# Altium integrated library Linear Technology PMIC-Switching Reg LTC1174-LTC3901.IntLib: 2647 symbols (part 273 of 310)
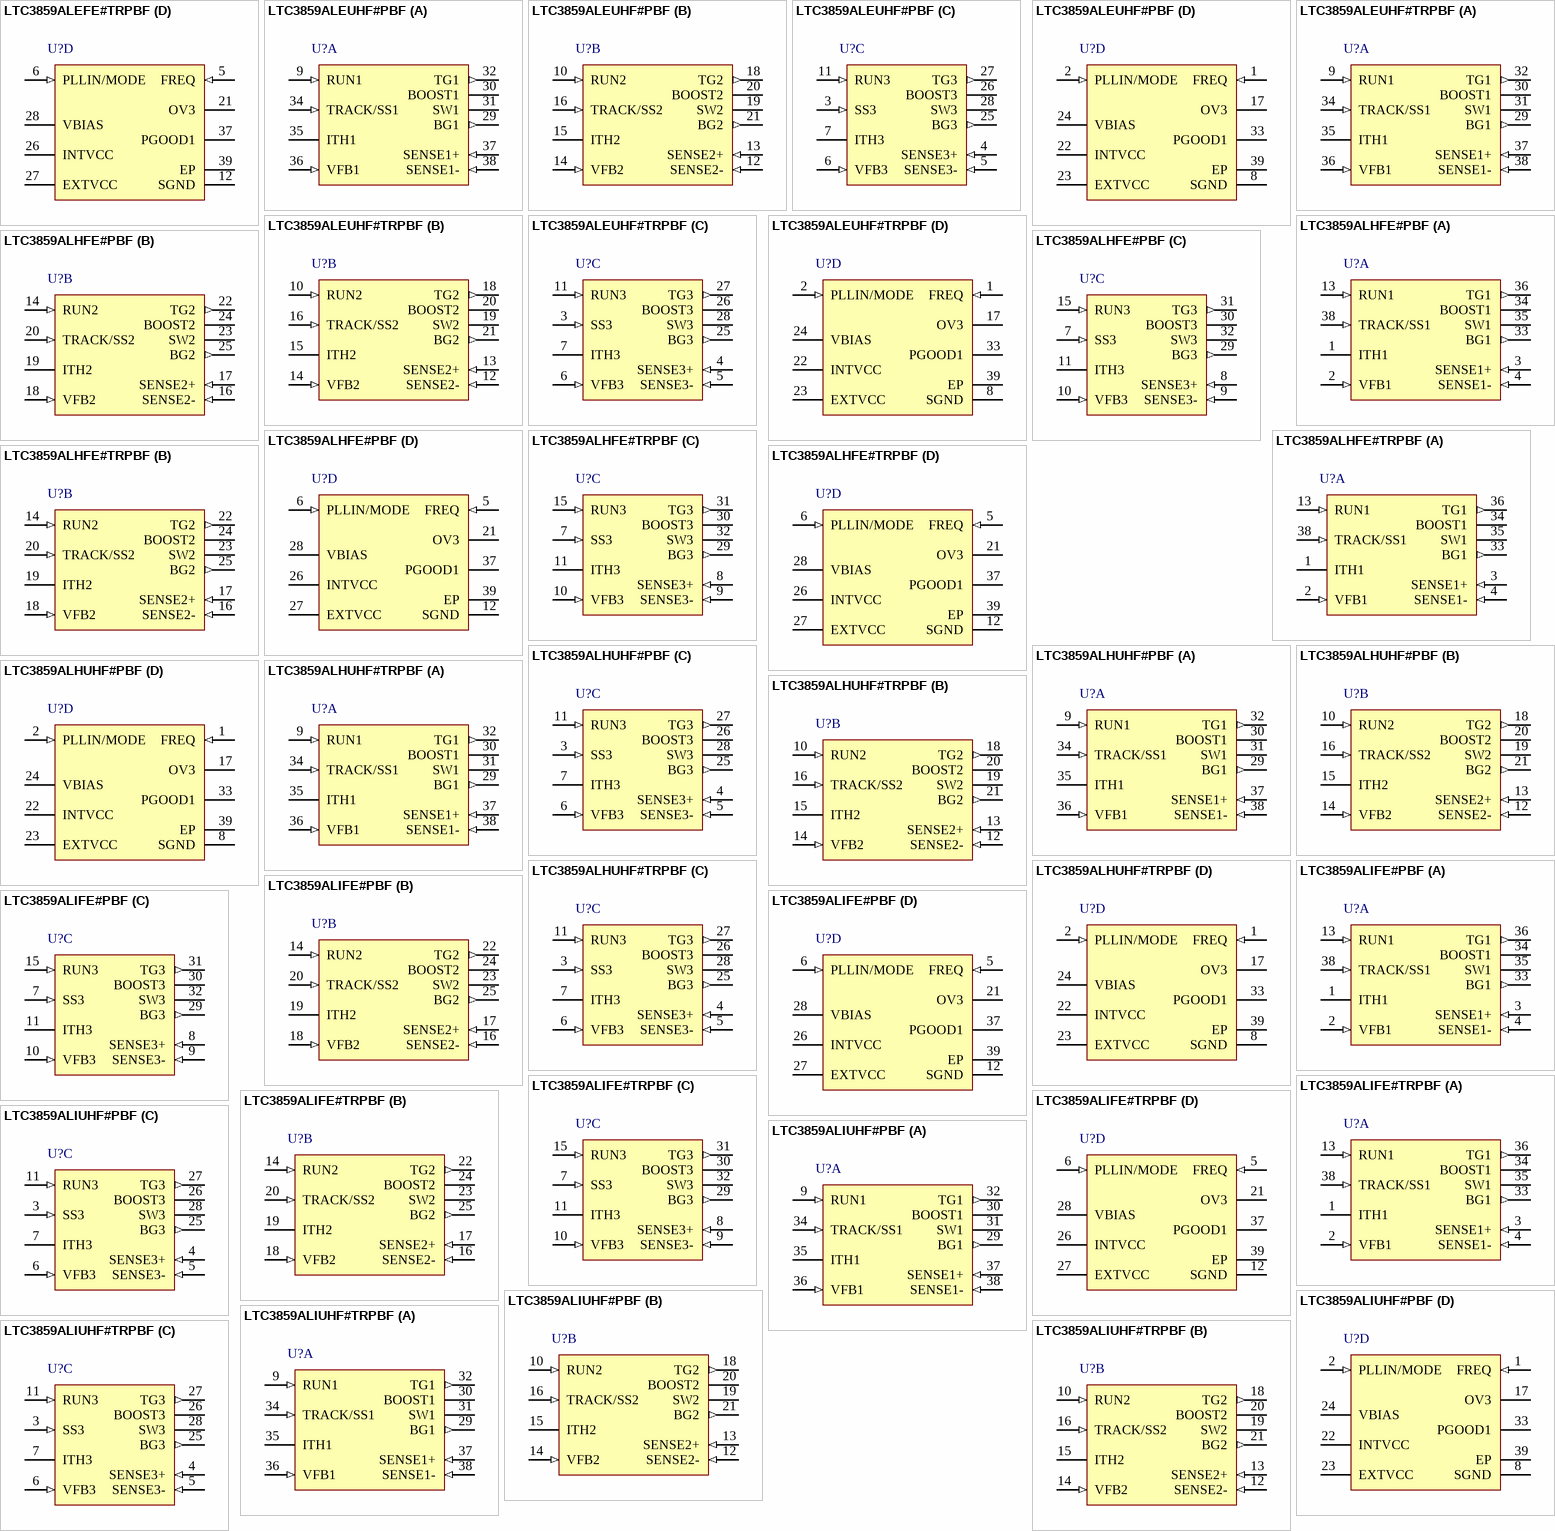
[diagram p280: symbols LTC3859ALEFE#TRPBF to LTC3859ALIUHF#TRPBF]

## LTC3859ALHFE#TRPBF
designator U?
Low IQ, Triple Output, Buck / Buck / Boost Synchronous Controller with Improved Burst Mode Operation, 38-pin SOP (FE-38-EPV-AA), -40 to 150 degC, Pb-Free, Tape and Reel; Manufacturer: Linear Technology; PartNumber: LTC3859ALHFE#TRPBF; Number of Outputs: 3; PackageReference: FE-38; PackageDescription: 38-Pin Plastic TSSOP, Body 9.7 x 4.4 mm, Pitch 0.5 mm; Supplier 1: Digi-Key; Supplier Part Number 1: LTC3859ALHFE#TRPBF-ND; RoHS: TRUE
footprint LT-FE-38-EPV-AA_N (SOP, 38-Leads, Body 9.8x4.5mm, Pitch 0.5mm, Thermal Pad 4.75x2.74mm, IPC Medium Density)
footprint LT-FE-38-EPV-AA_L (SOP, 38-Leads, Body 9.8x4.5mm, Pitch 0.5mm, Thermal Pad 4.75x2.74mm, IPC High Density)
footprint LT-FE-38-EPV-AA_M (SOP, 38-Leads, Body 9.8x4.5mm, Pitch 0.5mm, Thermal Pad 4.75x2.74mm, IPC Low Density)
part A pins: 1 ITH1 "Error Amplifier Outputs and Switching Regulator Compensation Points. Each associated channel’s current comparator trip point increases with this control voltage.", 2 VFB1 (in) "Receives the remotely sensed feedback voltage for each controller from an external resistive divider across the output.", 3 SENSE1+ (in) "The (+) Input to the Differential Current Comparators. The ITH pin voltage and controlled offsets between the SENSE- and SENSE+ pins in conjunction with RSENSE set the current trip threshold. For the boost channel, the (See Datasheet)", 4 SENSE1- (in) "The (-) Input to the Differential Current Comparators. When SENSE1,2- for the buck channels is greater than INTVCC, then SENSE1,2- pin supplies current to the current comparator.", 13 RUN1 (in) "Digital Run Control Inputs for Each Controller.", 33 BG1 (out) "High Current Gate Drives for Bottom (Synchronous) N-Channel MOSFETs. Voltage swing at these pins is from ground to INTVCC.", 34 BOOST1 "Bootstrapped Supplies to the Top Side Floating Drivers. Capacitors are connected between the BOOST and SW pins and Schottky diodes are tied between the BOOST and INTVCC pins. Voltage swing at the BOOST pins is from INTVCC to (See Datasheet)", 35 SW1 "Switch Node Connections to Inductors.", 36 TG1 (out) "High Current Gate Drives for Top N-Channel MOSFETs. These are the outputs of floating drivers with a voltage swing equal to INTVCC superimposed on the switch node voltage SW.", 38 TRACK/SS1 (in) "External Tracking and Soft-Start Input."
part B pins: 14 RUN2 (in) "Digital Run Control Inputs for Each Controller.", 16 SENSE2- (in) "The (-) Input to the Differential Current Comparators. When SENSE1,2- for the buck channels is greater than INTVCC, then SENSE1,2- pin supplies current to the current comparator", 17 SENSE2+ (in) "The (+) Input to the Differential Current Comparators. The ITH pin voltage and controlled offsets between the SENSE- and SENSE+ pins in conjunction with RSENSE set the current trip threshold. For the boost channel, the (See Datasheet)", 18 VFB2 (in) "Receives the remotely sensed feedback voltage for each controller from an external resistive divider across the output.", 19 ITH2 "Error Amplifier Outputs and Switching Regulator Compensation Points. Each associated channel’s current comparator trip point increases with this control voltage.", 20 TRACK/SS2 (in) "External Tracking and Soft-Start Input.", 22 TG2 (out) "High Current Gate Drives for Top N-Channel MOSFETs. These are the outputs of floating drivers with a voltage swing equal to INTVCC superimposed on the switch node voltage SW.", 23 SW2 "Switch Node Connections to Inductors.", 24 BOOST2 "Bootstrapped Supplies to the Top Side Floating Drivers. Capacitors are connected between the BOOST and SW pins and Schottky diodes are tied between the BOOST and INTVCC pins. Voltage swing at the BOOST pins is from INTVCC to (See Datasheet)", 25 BG2 (out) "High Current Gate Drives for Bottom (Synchronous) N-Channel MOSFETs. Voltage swing at these pins is from ground to INTVCC."
part C pins: 7 SS3 (in) "External Tracking and Soft-Start Input.", 8 SENSE3+ (in) "The (+) Input to the Differential Current Comparators. The ITH pin voltage and controlled offsets between the SENSE- and SENSE+ pins in conjunction with RSENSE set the current trip threshold. For the boost channel, the (See Datasheet)", 9 SENSE3- (in) "The (-) Input to the Differential Current Comparators. When SENSE1,2- for the buck channels is greater than INTVCC, then SENSE1,2- pin supplies current to the current comparator.", 10 VFB3 (in) "Receives the remotely sensed feedback voltage for each controller from an external resistive divider across the output.", 11 ITH3 "Error Amplifier Outputs and Switching Regulator Compensation Points. Each associated channel’s current comparator trip point increases with this control voltage.", 15 RUN3 (in) "Digital Run Control Inputs for Each Controller.", 29 BG3 (out) "High Current Gate Drives for Bottom (Synchronous) N-Channel MOSFETs. Voltage swing at these pins is from ground to INTVCC.", 30 BOOST3 "Bootstrapped Supplies to the Top Side Floating Drivers. Capacitors are connected between the BOOST and SW pins and Schottky diodes are tied between the BOOST and INTVCC pins. Voltage swing at the BOOST pins is from INTVCC to (See Datasheet)", 31 TG3 (out) "High Current Gate Drives for Top N-Channel MOSFETs. These are the outputs of floating drivers with a voltage swing equal to INTVCC superimposed on the switch node voltage SW.", 32 SW3 "Switch Node Connections to Inductors."
part D pins: 5 FREQ (in) "The Frequency Control Pin for the Internal VCO. Connecting the pin to GND forces the VCO to a fixed low frequency of 350kHz. Connecting the pin to INTVCC forces the VCO to a fixed high frequency of 535kHz. Other frequencies (See Datasheet)", 6 PLLIN/MODE (in) "External Synchronization Input to Phase Detector and Forced Continuous Mode Input.", 12 SGND (power) "Small Signal Ground common to all three controllers, must be routed separately from high current grounds to the common (-) terminals of the CIN capacitors.", 21 OV3 (hiz) "Overvoltage Open-Drain Logic Output for the Boost Regulator. OV3 is pulled to ground when the voltage on the VFB3 pin is under 110% of its set point, and becomes high impedance when VFB3 goes over 110% of its set point.", 26 INTVCC (power) "Output of the Internal Linear Low Dropout Regulator. The driver and control circuits are powered from this voltage source. Must be decoupled to PGND with a minimum of 4.7uF ceramic or tantalum capacitor.", 27 EXTVCC (power) "External Power Input to an Internal LDO Connected to INTVCC. This LDO supplies INTVCC power, bypassing the internal LDO powered from VBIAS whenever EXTVCC is higher than 4.7V. See EXTVCC Connection in the Applications (See Datasheet)", 28 VBIAS (power) "Main Bias Input Supply Pin. A bypass capacitor should be tied between this pin and the SGND pin.", 37 PGOOD1 (oc) "Open-Drain Logic Output. PGOOD1 is pulled to ground when the voltage on the VFB1 pin is not within +/-10% of its set point.", 39 EP (power) "Driver Power Ground. Connects to the sources of bottom N-channel MOSFETs and the (-) terminal(s) of CIN. The exposed pad must be soldered to the PCB for rated electrical and thermal performance."

## LTC3859ALHUHF#PBF
designator U?
Low IQ, Triple Output, Buck / Buck / Boost Synchronous Controller with Improved Burst Mode Operation, 38-pin QFN (UHF-38), -40 to 150 degC, Pb-Free; Manufacturer: Linear Technology; PartNumber: LTC3859ALHUHF#PBF; Number of Outputs: 3; PackageReference: UHF-38; PackageDescription: 38-Pin Plastic QFN, Body 7 x 5 mm, Pitch 0.5 mm; Supplier 1: Digi-Key; Supplier Part Number 1: LTC3859ALHUHF#PBF-ND; RoHS: TRUE; Code_JEDEC: MO-220
footprint LT-UHF-38_N (QFN, 38-Leads, Body 7.1x5.1mm, Pitch 0.5mm, Thermal Pad 3.15x5.15mm, IPC Medium Density)
footprint LT-UHF-38_L (QFN, 38-Leads, Body 7.1x5.1mm, Pitch 0.5mm, Thermal Pad 3.15x5.15mm, IPC High Density)
footprint LT-UHF-38_M (QFN, 38-Leads, Body 7.1x5.1mm, Pitch 0.5mm, Thermal Pad 3.15x5.15mm, IPC Low Density)
part A pins: 9 RUN1 (in) "Digital Run Control Inputs for Each Controller.", 29 BG1 (out) "High Current Gate Drives for Bottom (Synchronous) N-Channel MOSFETs. Voltage swing at these pins is from ground to INTVCC.", 30 BOOST1 "Bootstrapped Supplies to the Top Side Floating Drivers. Capacitors are connected between the BOOST and SW pins and Schottky diodes are tied between the BOOST and INTVCC pins. Voltage swing at the BOOST pins is from INTVCC to (See Datasheet)", 31 SW1 "Switch Node Connections to Inductors", 32 TG1 (out) "High Current Gate Drives for Top N-Channel MOSFETs. These are the outputs of floating drivers with a voltage swing equal to INTVCC superimposed on the switch node voltage SW.", 34 TRACK/SS1 (in) "External Tracking and Soft-Start Input.", 35 ITH1 "Error Amplifier Outputs and Switching Regulator Compensation Points. Each associated channel’s current comparator trip point increases with this control voltage.", 36 VFB1 (in) "Receives the remotely sensed feedback voltage for each controller from an external resistive divider across the output.", 37 SENSE1+ (in) "The (+) Input to the Differential Current Comparators. The ITH pin voltage and controlled offsets between the SENSE- and SENSE+ pins in conjunction with RSENSE set the current trip threshold. For the boost channel, the (See Datasheet)", 38 SENSE1- (in) "The (-) Input to the Differential Current Comparators. When SENSE1,2- for the buck channels is greater than INTVCC, then SENSE1,2- pin supplies current to the current comparator."
part B pins: 10 RUN2 (in) "Digital Run Control Inputs for Each Controller.", 12 SENSE2- (in) "The (-) Input to the Differential Current Comparators. When SENSE1,2- for the buck channels is greater than INTVCC, then SENSE1,2- pin supplies current to the current comparator.", 13 SENSE2+ (in) "The (+) Input to the Differential Current Comparators. The ITH pin voltage and controlled offsets between the SENSE- and SENSE+ pins in conjunction with RSENSE set the current trip threshold. For the boost channel, the (See Datasheet)", 14 VFB2 (in) "Receives the remotely sensed feedback voltage for each controller from an external resistive divider across the output.", 15 ITH2 "Error Amplifier Outputs and Switching Regulator Compensation Points. Each associated channel’s current comparator trip point increases with this control voltage.", 16 TRACK/SS2 (in) "External Tracking and Soft-Start Input.", 18 TG2 (out) "High Current Gate Drives for Top N-Channel MOSFETs. These are the outputs of floating drivers with a voltage swing equal to INTVCC superimposed on the switch node voltage SW.", 19 SW2 "Switch Node Connections to Inductors", 20 BOOST2 "Bootstrapped Supplies to the Top Side Floating Drivers. Capacitors are connected between the BOOST and SW pins and Schottky diodes are tied between the BOOST and INTVCC pins. Voltage swing at the BOOST pins is from INTVCC to (See Datasheet)", 21 BG2 (out) "High Current Gate Drives for Bottom (Synchronous) N-Channel MOSFETs. Voltage swing at these pins is from ground to INTVCC."
part C pins: 3 SS3 (in) "External Tracking and Soft-Start Input.", 4 SENSE3+ (in) "The (+) Input to the Differential Current Comparators. The ITH pin voltage and controlled offsets between the SENSE- and SENSE+ pins in conjunction with RSENSE set the current trip threshold. For the boost channel, the (See Datasheet)", 5 SENSE3- (in) "The (-) Input to the Differential Current Comparators. When SENSE1,2- for the buck channels is greater than INTVCC, then SENSE1,2- pin supplies current to the current comparator.", 6 VFB3 (in) "Receives the remotely sensed feedback voltage for each controller from an external resistive divider across the output.", 7 ITH3 "Error Amplifier Outputs and Switching Regulator Compensation Points. Each associated channel’s current comparator trip point increases with this control voltage.", 11 RUN3 (in) "Digital Run Control Inputs for Each Controller.", 25 BG3 (out) "High Current Gate Drives for Bottom (Synchronous) N-Channel MOSFETs. Voltage swing at these pins is from ground to INTVCC.", 26 BOOST3 "Bootstrapped Supplies to the Top Side Floating Drivers. Capacitors are connected between the BOOST and SW pins and Schottky diodes are tied between the BOOST and INTVCC pins. Voltage swing at the BOOST pins is from INTVCC to (See Datasheet)", 27 TG3 (out) "High Current Gate Drives for Top N-Channel MOSFETs. These are the outputs of floating drivers with a voltage swing equal to INTVCC superimposed on the switch node voltage SW.", 28 SW3 "Switch Node Connections to Inductors"
part D pins: 1 FREQ (in) "The Frequency Control Pin for the Internal VCO. Connecting the pin to GND forces the VCO to a fixed low frequency of 350kHz. Connecting the pin to INTVCC forces the VCO to a fixed high frequency of 535kHz. Other frequencies (See Datasheet)", 2 PLLIN/MODE (in) "External Synchronization Input to Phase Detector and Forced Continuous Mode Input.", 8 SGND (power) "Small Signal Ground common to all three controllers, must be routed separately from high current grounds to the common (-) terminals of the CIN capacitors.", 17 OV3 (hiz) "Overvoltage Open-Drain Logic Output for the Boost Regulator. OV3 is pulled to ground when the voltage on the VFB3 pin is under 110% of its set point, and becomes high impedance when VFB3 goes over 110% of its set point.", 22 INTVCC (power) "Output of the Internal Linear Low Dropout Regulator. The driver and control circuits are powered from this voltage source. Must be decoupled to PGND with a minimum of 4.7uF ceramic or tantalum capacitor", 23 EXTVCC (power) "External Power Input to an Internal LDO Connected to INTVCC. This LDO supplies INTVCC power, bypassing the internal LDO powered from VBIAS whenever EXTVCC is higher than 4.7V. See EXTVCC Connection in the Applications (See Datasheet)", 24 VBIAS (power) "Main Bias Input Supply Pin. A bypass capacitor should be tied between this pin and the SGND pin", 33 PGOOD1 (oc) "Open-Drain Logic Output. PGOOD1 is pulled to ground when the voltage on the VFB1 pin is not within +/-10% of its set point.", 39 EP (power) "Driver Power Ground. Connects to the sources of bottom N-channel MOSFETs and the (-) terminal(s) of CIN. The exposed pad must be soldered to the PCB for rated electrical and thermal performance."

## LTC3859ALHUHF#TRPBF
designator U?
Low IQ, Triple Output, Buck / Buck / Boost Synchronous Controller with Improved Burst Mode Operation, 38-pin QFN (UHF-38), -40 to 150 degC, Pb-Free, Tape and Reel; Manufacturer: Linear Technology; PartNumber: LTC3859ALHUHF#TRPBF; Number of Outputs: 3; PackageReference: UHF-38; PackageDescription: 38-Pin Plastic QFN, Body 7 x 5 mm, Pitch 0.5 mm; Supplier 1: Digi-Key; Supplier Part Number 1: LTC3859ALHUHF#TRPBF-ND; RoHS: TRUE; Code_JEDEC: MO-220
footprint LT-UHF-38_N (QFN, 38-Leads, Body 7.1x5.1mm, Pitch 0.5mm, Thermal Pad 3.15x5.15mm, IPC Medium Density)
footprint LT-UHF-38_L (QFN, 38-Leads, Body 7.1x5.1mm, Pitch 0.5mm, Thermal Pad 3.15x5.15mm, IPC High Density)
footprint LT-UHF-38_M (QFN, 38-Leads, Body 7.1x5.1mm, Pitch 0.5mm, Thermal Pad 3.15x5.15mm, IPC Low Density)
part A pins: 9 RUN1 (in) "Digital Run Control Inputs for Each Controller.", 29 BG1 (out) "High Current Gate Drives for Bottom (Synchronous) N-Channel MOSFETs. Voltage swing at these pins is from ground to INTVCC.", 30 BOOST1 "Bootstrapped Supplies to the Top Side Floating Drivers. Capacitors are connected between the BOOST and SW pins and Schottky diodes are tied between the BOOST and INTVCC pins. Voltage swing at the BOOST pins is from INTVCC to (See Datasheet)", 31 SW1 "Switch Node Connections to Inductors", 32 TG1 (out) "High Current Gate Drives for Top N-Channel MOSFETs. These are the outputs of floating drivers with a voltage swing equal to INTVCC superimposed on the switch node voltage SW.", 34 TRACK/SS1 (in) "External Tracking and Soft-Start Input.", 35 ITH1 "Error Amplifier Outputs and Switching Regulator Compensation Points. Each associated channel’s current comparator trip point increases with this control voltage.", 36 VFB1 (in) "Receives the remotely sensed feedback voltage for each controller from an external resistive divider across the output.", 37 SENSE1+ (in) "The (+) Input to the Differential Current Comparators. The ITH pin voltage and controlled offsets between the SENSE- and SENSE+ pins in conjunction with RSENSE set the current trip threshold. For the boost channel, the (See Datasheet)", 38 SENSE1- (in) "The (-) Input to the Differential Current Comparators. When SENSE1,2- for the buck channels is greater than INTVCC, then SENSE1,2- pin supplies current to the current comparator."
part B pins: 10 RUN2 (in) "Digital Run Control Inputs for Each Controller.", 12 SENSE2- (in) "The (-) Input to the Differential Current Comparators. When SENSE1,2- for the buck channels is greater than INTVCC, then SENSE1,2- pin supplies current to the current comparator.", 13 SENSE2+ (in) "The (+) Input to the Differential Current Comparators. The ITH pin voltage and controlled offsets between the SENSE- and SENSE+ pins in conjunction with RSENSE set the current trip threshold. For the boost channel, the (See Datasheet)", 14 VFB2 (in) "Receives the remotely sensed feedback voltage for each controller from an external resistive divider across the output.", 15 ITH2 "Error Amplifier Outputs and Switching Regulator Compensation Points. Each associated channel’s current comparator trip point increases with this control voltage.", 16 TRACK/SS2 (in) "External Tracking and Soft-Start Input.", 18 TG2 (out) "High Current Gate Drives for Top N-Channel MOSFETs. These are the outputs of floating drivers with a voltage swing equal to INTVCC superimposed on the switch node voltage SW.", 19 SW2 "Switch Node Connections to Inductors", 20 BOOST2 "Bootstrapped Supplies to the Top Side Floating Drivers. Capacitors are connected between the BOOST and SW pins and Schottky diodes are tied between the BOOST and INTVCC pins. Voltage swing at the BOOST pins is from INTVCC to (See Datasheet)", 21 BG2 (out) "High Current Gate Drives for Bottom (Synchronous) N-Channel MOSFETs. Voltage swing at these pins is from ground to INTVCC."
part C pins: 3 SS3 (in) "External Tracking and Soft-Start Input.", 4 SENSE3+ (in) "The (+) Input to the Differential Current Comparators. The ITH pin voltage and controlled offsets between the SENSE- and SENSE+ pins in conjunction with RSENSE set the current trip threshold. For the boost channel, the (See Datasheet)", 5 SENSE3- (in) "The (-) Input to the Differential Current Comparators. When SENSE1,2- for the buck channels is greater than INTVCC, then SENSE1,2- pin supplies current to the current comparator.", 6 VFB3 (in) "Receives the remotely sensed feedback voltage for each controller from an external resistive divider across the output.", 7 ITH3 "Error Amplifier Outputs and Switching Regulator Compensation Points. Each associated channel’s current comparator trip point increases with this control voltage.", 11 RUN3 (in) "Digital Run Control Inputs for Each Controller.", 25 BG3 (out) "High Current Gate Drives for Bottom (Synchronous) N-Channel MOSFETs. Voltage swing at these pins is from ground to INTVCC.", 26 BOOST3 "Bootstrapped Supplies to the Top Side Floating Drivers. Capacitors are connected between the BOOST and SW pins and Schottky diodes are tied between the BOOST and INTVCC pins. Voltage swing at the BOOST pins is from INTVCC to (See Datasheet)", 27 TG3 (out) "High Current Gate Drives for Top N-Channel MOSFETs. These are the outputs of floating drivers with a voltage swing equal to INTVCC superimposed on the switch node voltage SW.", 28 SW3 "Switch Node Connections to Inductors"
part D pins: 1 FREQ (in) "The Frequency Control Pin for the Internal VCO. Connecting the pin to GND forces the VCO to a fixed low frequency of 350kHz. Connecting the pin to INTVCC forces the VCO to a fixed high frequency of 535kHz. Other frequencies (See Datasheet)", 2 PLLIN/MODE (in) "External Synchronization Input to Phase Detector and Forced Continuous Mode Input.", 8 SGND (power) "Small Signal Ground common to all three controllers, must be routed separately from high current grounds to the common (-) terminals of the CIN capacitors.", 17 OV3 (hiz) "Overvoltage Open-Drain Logic Output for the Boost Regulator. OV3 is pulled to ground when the voltage on the VFB3 pin is under 110% of its set point, and becomes high impedance when VFB3 goes over 110% of its set point.", 22 INTVCC (power) "Output of the Internal Linear Low Dropout Regulator. The driver and control circuits are powered from this voltage source. Must be decoupled to PGND with a minimum of 4.7uF ceramic or tantalum capacitor", 23 EXTVCC (power) "External Power Input to an Internal LDO Connected to INTVCC. This LDO supplies INTVCC power, bypassing the internal LDO powered from VBIAS whenever EXTVCC is higher than 4.7V. See EXTVCC Connection in the Applications (See Datasheet)", 24 VBIAS (power) "Main Bias Input Supply Pin. A bypass capacitor should be tied between this pin and the SGND pin", 33 PGOOD1 (oc) "Open-Drain Logic Output. PGOOD1 is pulled to ground when the voltage on the VFB1 pin is not within +/-10% of its set point.", 39 EP (power) "Driver Power Ground. Connects to the sources of bottom N-channel MOSFETs and the (-) terminal(s) of CIN. The exposed pad must be soldered to the PCB for rated electrical and thermal performance."

## LTC3859ALIFE#PBF
designator U?
Low IQ, Triple Output, Buck / Buck / Boost Synchronous Controller with Improved Burst Mode Operation, 38-pin SOP (FE-38-EPV-AA), -40 to 125 degC, Pb-Free; Manufacturer: Linear Technology; PartNumber: LTC3859ALIFE#PBF; Number of Outputs: 3; PackageReference: FE-38; PackageDescription: 38-Pin Plastic TSSOP, Body 9.7 x 4.4 mm, Pitch 0.5 mm; Supplier 1: Digi-Key; Supplier Part Number 1: LTC3859ALIFE#PBF-ND; RoHS: TRUE
footprint LT-FE-38-EPV-AA_N (SOP, 38-Leads, Body 9.8x4.5mm, Pitch 0.5mm, Thermal Pad 4.75x2.74mm, IPC Medium Density)
footprint LT-FE-38-EPV-AA_L (SOP, 38-Leads, Body 9.8x4.5mm, Pitch 0.5mm, Thermal Pad 4.75x2.74mm, IPC High Density)
footprint LT-FE-38-EPV-AA_M (SOP, 38-Leads, Body 9.8x4.5mm, Pitch 0.5mm, Thermal Pad 4.75x2.74mm, IPC Low Density)
part A pins: 1 ITH1 "Error Amplifier Outputs and Switching Regulator Compensation Points. Each associated channel’s current comparator trip point increases with this control voltage.", 2 VFB1 (in) "Receives the remotely sensed feedback voltage for each controller from an external resistive divider across the output.", 3 SENSE1+ (in) "The (+) Input to the Differential Current Comparators. The ITH pin voltage and controlled offsets between the SENSE- and SENSE+ pins in conjunction with RSENSE set the current trip threshold. For the boost channel, the (See Datasheet)", 4 SENSE1- (in) "The (-) Input to the Differential Current Comparators. When SENSE1,2- for the buck channels is greater than INTVCC, then SENSE1,2- pin supplies current to the current comparator.", 13 RUN1 (in) "Digital Run Control Inputs for Each Controller.", 33 BG1 (out) "High Current Gate Drives for Bottom (Synchronous) N-Channel MOSFETs. Voltage swing at these pins is from ground to INTVCC.", 34 BOOST1 "Bootstrapped Supplies to the Top Side Floating Drivers. Capacitors are connected between the BOOST and SW pins and Schottky diodes are tied between the BOOST and INTVCC pins. Voltage swing at the BOOST pins is from INTVCC to (See Datasheet)", 35 SW1 "Switch Node Connections to Inductors.", 36 TG1 (out) "High Current Gate Drives for Top N-Channel MOSFETs. These are the outputs of floating drivers with a voltage swing equal to INTVCC superimposed on the switch node voltage SW.", 38 TRACK/SS1 (in) "External Tracking and Soft-Start Input."
part B pins: 14 RUN2 (in) "Digital Run Control Inputs for Each Controller.", 16 SENSE2- (in) "The (-) Input to the Differential Current Comparators. When SENSE1,2- for the buck channels is greater than INTVCC, then SENSE1,2- pin supplies current to the current comparator", 17 SENSE2+ (in) "The (+) Input to the Differential Current Comparators. The ITH pin voltage and controlled offsets between the SENSE- and SENSE+ pins in conjunction with RSENSE set the current trip threshold. For the boost channel, the (See Datasheet)", 18 VFB2 (in) "Receives the remotely sensed feedback voltage for each controller from an external resistive divider across the output.", 19 ITH2 "Error Amplifier Outputs and Switching Regulator Compensation Points. Each associated channel’s current comparator trip point increases with this control voltage.", 20 TRACK/SS2 (in) "External Tracking and Soft-Start Input.", 22 TG2 (out) "High Current Gate Drives for Top N-Channel MOSFETs. These are the outputs of floating drivers with a voltage swing equal to INTVCC superimposed on the switch node voltage SW.", 23 SW2 "Switch Node Connections to Inductors.", 24 BOOST2 "Bootstrapped Supplies to the Top Side Floating Drivers. Capacitors are connected between the BOOST and SW pins and Schottky diodes are tied between the BOOST and INTVCC pins. Voltage swing at the BOOST pins is from INTVCC to (See Datasheet)", 25 BG2 (out) "High Current Gate Drives for Bottom (Synchronous) N-Channel MOSFETs. Voltage swing at these pins is from ground to INTVCC."
part C pins: 7 SS3 (in) "External Tracking and Soft-Start Input.", 8 SENSE3+ (in) "The (+) Input to the Differential Current Comparators. The ITH pin voltage and controlled offsets between the SENSE- and SENSE+ pins in conjunction with RSENSE set the current trip threshold. For the boost channel, the (See Datasheet)", 9 SENSE3- (in) "The (-) Input to the Differential Current Comparators. When SENSE1,2- for the buck channels is greater than INTVCC, then SENSE1,2- pin supplies current to the current comparator.", 10 VFB3 (in) "Receives the remotely sensed feedback voltage for each controller from an external resistive divider across the output.", 11 ITH3 "Error Amplifier Outputs and Switching Regulator Compensation Points. Each associated channel’s current comparator trip point increases with this control voltage.", 15 RUN3 (in) "Digital Run Control Inputs for Each Controller.", 29 BG3 (out) "High Current Gate Drives for Bottom (Synchronous) N-Channel MOSFETs. Voltage swing at these pins is from ground to INTVCC.", 30 BOOST3 "Bootstrapped Supplies to the Top Side Floating Drivers. Capacitors are connected between the BOOST and SW pins and Schottky diodes are tied between the BOOST and INTVCC pins. Voltage swing at the BOOST pins is from INTVCC to (See Datasheet)", 31 TG3 (out) "High Current Gate Drives for Top N-Channel MOSFETs. These are the outputs of floating drivers with a voltage swing equal to INTVCC superimposed on the switch node voltage SW.", 32 SW3 "Switch Node Connections to Inductors."
part D pins: 5 FREQ (in) "The Frequency Control Pin for the Internal VCO. Connecting the pin to GND forces the VCO to a fixed low frequency of 350kHz. Connecting the pin to INTVCC forces the VCO to a fixed high frequency of 535kHz. Other frequencies (See Datasheet)", 6 PLLIN/MODE (in) "External Synchronization Input to Phase Detector and Forced Continuous Mode Input.", 12 SGND (power) "Small Signal Ground common to all three controllers, must be routed separately from high current grounds to the common (-) terminals of the CIN capacitors.", 21 OV3 (hiz) "Overvoltage Open-Drain Logic Output for the Boost Regulator. OV3 is pulled to ground when the voltage on the VFB3 pin is under 110% of its set point, and becomes high impedance when VFB3 goes over 110% of its set point.", 26 INTVCC (power) "Output of the Internal Linear Low Dropout Regulator. The driver and control circuits are powered from this voltage source. Must be decoupled to PGND with a minimum of 4.7uF ceramic or tantalum capacitor.", 27 EXTVCC (power) "External Power Input to an Internal LDO Connected to INTVCC. This LDO supplies INTVCC power, bypassing the internal LDO powered from VBIAS whenever EXTVCC is higher than 4.7V. See EXTVCC Connection in the Applications (See Datasheet)", 28 VBIAS (power) "Main Bias Input Supply Pin. A bypass capacitor should be tied between this pin and the SGND pin.", 37 PGOOD1 (oc) "Open-Drain Logic Output. PGOOD1 is pulled to ground when the voltage on the VFB1 pin is not within +/-10% of its set point.", 39 EP (power) "Driver Power Ground. Connects to the sources of bottom N-channel MOSFETs and the (-) terminal(s) of CIN. The exposed pad must be soldered to the PCB for rated electrical and thermal performance."

## LTC3859ALIFE#TRPBF
designator U?
Low IQ, Triple Output, Buck / Buck / Boost Synchronous Controller with Improved Burst Mode Operation, 38-pin SOP (FE-38-EPV-AA), -40 to 125 degC, Pb-Free, Tape and Reel; Manufacturer: Linear Technology; PartNumber: LTC3859ALIFE#TRPBF; Number of Outputs: 3; PackageReference: FE-38; PackageDescription: 38-Pin Plastic TSSOP, Body 9.7 x 4.4 mm, Pitch 0.5 mm; Supplier 1: Digi-Key; Supplier Part Number 1: LTC3859ALIFE#TRPBF-ND; RoHS: TRUE
footprint LT-FE-38-EPV-AA_N (SOP, 38-Leads, Body 9.8x4.5mm, Pitch 0.5mm, Thermal Pad 4.75x2.74mm, IPC Medium Density)
footprint LT-FE-38-EPV-AA_L (SOP, 38-Leads, Body 9.8x4.5mm, Pitch 0.5mm, Thermal Pad 4.75x2.74mm, IPC High Density)
footprint LT-FE-38-EPV-AA_M (SOP, 38-Leads, Body 9.8x4.5mm, Pitch 0.5mm, Thermal Pad 4.75x2.74mm, IPC Low Density)
part A pins: 1 ITH1 "Error Amplifier Outputs and Switching Regulator Compensation Points. Each associated channel’s current comparator trip point increases with this control voltage.", 2 VFB1 (in) "Receives the remotely sensed feedback voltage for each controller from an external resistive divider across the output.", 3 SENSE1+ (in) "The (+) Input to the Differential Current Comparators. The ITH pin voltage and controlled offsets between the SENSE- and SENSE+ pins in conjunction with RSENSE set the current trip threshold. For the boost channel, the (See Datasheet)", 4 SENSE1- (in) "The (-) Input to the Differential Current Comparators. When SENSE1,2- for the buck channels is greater than INTVCC, then SENSE1,2- pin supplies current to the current comparator.", 13 RUN1 (in) "Digital Run Control Inputs for Each Controller.", 33 BG1 (out) "High Current Gate Drives for Bottom (Synchronous) N-Channel MOSFETs. Voltage swing at these pins is from ground to INTVCC.", 34 BOOST1 "Bootstrapped Supplies to the Top Side Floating Drivers. Capacitors are connected between the BOOST and SW pins and Schottky diodes are tied between the BOOST and INTVCC pins. Voltage swing at the BOOST pins is from INTVCC to (See Datasheet)", 35 SW1 "Switch Node Connections to Inductors.", 36 TG1 (out) "High Current Gate Drives for Top N-Channel MOSFETs. These are the outputs of floating drivers with a voltage swing equal to INTVCC superimposed on the switch node voltage SW.", 38 TRACK/SS1 (in) "External Tracking and Soft-Start Input."
part B pins: 14 RUN2 (in) "Digital Run Control Inputs for Each Controller.", 16 SENSE2- (in) "The (-) Input to the Differential Current Comparators. When SENSE1,2- for the buck channels is greater than INTVCC, then SENSE1,2- pin supplies current to the current comparator", 17 SENSE2+ (in) "The (+) Input to the Differential Current Comparators. The ITH pin voltage and controlled offsets between the SENSE- and SENSE+ pins in conjunction with RSENSE set the current trip threshold. For the boost channel, the (See Datasheet)", 18 VFB2 (in) "Receives the remotely sensed feedback voltage for each controller from an external resistive divider across the output.", 19 ITH2 "Error Amplifier Outputs and Switching Regulator Compensation Points. Each associated channel’s current comparator trip point increases with this control voltage.", 20 TRACK/SS2 (in) "External Tracking and Soft-Start Input.", 22 TG2 (out) "High Current Gate Drives for Top N-Channel MOSFETs. These are the outputs of floating drivers with a voltage swing equal to INTVCC superimposed on the switch node voltage SW.", 23 SW2 "Switch Node Connections to Inductors.", 24 BOOST2 "Bootstrapped Supplies to the Top Side Floating Drivers. Capacitors are connected between the BOOST and SW pins and Schottky diodes are tied between the BOOST and INTVCC pins. Voltage swing at the BOOST pins is from INTVCC to (See Datasheet)", 25 BG2 (out) "High Current Gate Drives for Bottom (Synchronous) N-Channel MOSFETs. Voltage swing at these pins is from ground to INTVCC."
part C pins: 7 SS3 (in) "External Tracking and Soft-Start Input.", 8 SENSE3+ (in) "The (+) Input to the Differential Current Comparators. The ITH pin voltage and controlled offsets between the SENSE- and SENSE+ pins in conjunction with RSENSE set the current trip threshold. For the boost channel, the (See Datasheet)", 9 SENSE3- (in) "The (-) Input to the Differential Current Comparators. When SENSE1,2- for the buck channels is greater than INTVCC, then SENSE1,2- pin supplies current to the current comparator.", 10 VFB3 (in) "Receives the remotely sensed feedback voltage for each controller from an external resistive divider across the output.", 11 ITH3 "Error Amplifier Outputs and Switching Regulator Compensation Points. Each associated channel’s current comparator trip point increases with this control voltage.", 15 RUN3 (in) "Digital Run Control Inputs for Each Controller.", 29 BG3 (out) "High Current Gate Drives for Bottom (Synchronous) N-Channel MOSFETs. Voltage swing at these pins is from ground to INTVCC.", 30 BOOST3 "Bootstrapped Supplies to the Top Side Floating Drivers. Capacitors are connected between the BOOST and SW pins and Schottky diodes are tied between the BOOST and INTVCC pins. Voltage swing at the BOOST pins is from INTVCC to (See Datasheet)", 31 TG3 (out) "High Current Gate Drives for Top N-Channel MOSFETs. These are the outputs of floating drivers with a voltage swing equal to INTVCC superimposed on the switch node voltage SW.", 32 SW3 "Switch Node Connections to Inductors."
part D pins: 5 FREQ (in) "The Frequency Control Pin for the Internal VCO. Connecting the pin to GND forces the VCO to a fixed low frequency of 350kHz. Connecting the pin to INTVCC forces the VCO to a fixed high frequency of 535kHz. Other frequencies (See Datasheet)", 6 PLLIN/MODE (in) "External Synchronization Input to Phase Detector and Forced Continuous Mode Input.", 12 SGND (power) "Small Signal Ground common to all three controllers, must be routed separately from high current grounds to the common (-) terminals of the CIN capacitors.", 21 OV3 (hiz) "Overvoltage Open-Drain Logic Output for the Boost Regulator. OV3 is pulled to ground when the voltage on the VFB3 pin is under 110% of its set point, and becomes high impedance when VFB3 goes over 110% of its set point.", 26 INTVCC (power) "Output of the Internal Linear Low Dropout Regulator. The driver and control circuits are powered from this voltage source. Must be decoupled to PGND with a minimum of 4.7uF ceramic or tantalum capacitor.", 27 EXTVCC (power) "External Power Input to an Internal LDO Connected to INTVCC. This LDO supplies INTVCC power, bypassing the internal LDO powered from VBIAS whenever EXTVCC is higher than 4.7V. See EXTVCC Connection in the Applications (See Datasheet)", 28 VBIAS (power) "Main Bias Input Supply Pin. A bypass capacitor should be tied between this pin and the SGND pin.", 37 PGOOD1 (oc) "Open-Drain Logic Output. PGOOD1 is pulled to ground when the voltage on the VFB1 pin is not within +/-10% of its set point.", 39 EP (power) "Driver Power Ground. Connects to the sources of bottom N-channel MOSFETs and the (-) terminal(s) of CIN. The exposed pad must be soldered to the PCB for rated electrical and thermal performance."

## LTC3859ALIUHF#PBF
designator U?
Low IQ, Triple Output, Buck / Buck / Boost Synchronous Controller with Improved Burst Mode Operation, 38-pin QFN (UHF-38), -40 to 125 degC, Pb-Free; Manufacturer: Linear Technology; PartNumber: LTC3859ALIUHF#PBF; Number of Outputs: 3; PackageReference: UHF-38; PackageDescription: 38-Pin Plastic QFN, Body 7 x 5 mm, Pitch 0.5 mm; Supplier 1: Digi-Key; Supplier Part Number 1: LTC3859ALIUHF#PBF-ND; RoHS: TRUE; Code_JEDEC: MO-220
footprint LT-UHF-38_N (QFN, 38-Leads, Body 7.1x5.1mm, Pitch 0.5mm, Thermal Pad 3.15x5.15mm, IPC Medium Density)
footprint LT-UHF-38_L (QFN, 38-Leads, Body 7.1x5.1mm, Pitch 0.5mm, Thermal Pad 3.15x5.15mm, IPC High Density)
footprint LT-UHF-38_M (QFN, 38-Leads, Body 7.1x5.1mm, Pitch 0.5mm, Thermal Pad 3.15x5.15mm, IPC Low Density)
part A pins: 9 RUN1 (in) "Digital Run Control Inputs for Each Controller.", 29 BG1 (out) "High Current Gate Drives for Bottom (Synchronous) N-Channel MOSFETs. Voltage swing at these pins is from ground to INTVCC.", 30 BOOST1 "Bootstrapped Supplies to the Top Side Floating Drivers. Capacitors are connected between the BOOST and SW pins and Schottky diodes are tied between the BOOST and INTVCC pins. Voltage swing at the BOOST pins is from INTVCC to (See Datasheet)", 31 SW1 "Switch Node Connections to Inductors", 32 TG1 (out) "High Current Gate Drives for Top N-Channel MOSFETs. These are the outputs of floating drivers with a voltage swing equal to INTVCC superimposed on the switch node voltage SW.", 34 TRACK/SS1 (in) "External Tracking and Soft-Start Input.", 35 ITH1 "Error Amplifier Outputs and Switching Regulator Compensation Points. Each associated channel’s current comparator trip point increases with this control voltage.", 36 VFB1 (in) "Receives the remotely sensed feedback voltage for each controller from an external resistive divider across the output.", 37 SENSE1+ (in) "The (+) Input to the Differential Current Comparators. The ITH pin voltage and controlled offsets between the SENSE- and SENSE+ pins in conjunction with RSENSE set the current trip threshold. For the boost channel, the (See Datasheet)", 38 SENSE1- (in) "The (-) Input to the Differential Current Comparators. When SENSE1,2- for the buck channels is greater than INTVCC, then SENSE1,2- pin supplies current to the current comparator."
part B pins: 10 RUN2 (in) "Digital Run Control Inputs for Each Controller.", 12 SENSE2- (in) "The (-) Input to the Differential Current Comparators. When SENSE1,2- for the buck channels is greater than INTVCC, then SENSE1,2- pin supplies current to the current comparator.", 13 SENSE2+ (in) "The (+) Input to the Differential Current Comparators. The ITH pin voltage and controlled offsets between the SENSE- and SENSE+ pins in conjunction with RSENSE set the current trip threshold. For the boost channel, the (See Datasheet)", 14 VFB2 (in) "Receives the remotely sensed feedback voltage for each controller from an external resistive divider across the output.", 15 ITH2 "Error Amplifier Outputs and Switching Regulator Compensation Points. Each associated channel’s current comparator trip point increases with this control voltage.", 16 TRACK/SS2 (in) "External Tracking and Soft-Start Input.", 18 TG2 (out) "High Current Gate Drives for Top N-Channel MOSFETs. These are the outputs of floating drivers with a voltage swing equal to INTVCC superimposed on the switch node voltage SW.", 19 SW2 "Switch Node Connections to Inductors", 20 BOOST2 "Bootstrapped Supplies to the Top Side Floating Drivers. Capacitors are connected between the BOOST and SW pins and Schottky diodes are tied between the BOOST and INTVCC pins. Voltage swing at the BOOST pins is from INTVCC to (See Datasheet)", 21 BG2 (out) "High Current Gate Drives for Bottom (Synchronous) N-Channel MOSFETs. Voltage swing at these pins is from ground to INTVCC."
part C pins: 3 SS3 (in) "External Tracking and Soft-Start Input.", 4 SENSE3+ (in) "The (+) Input to the Differential Current Comparators. The ITH pin voltage and controlled offsets between the SENSE- and SENSE+ pins in conjunction with RSENSE set the current trip threshold. For the boost channel, the (See Datasheet)", 5 SENSE3- (in) "The (-) Input to the Differential Current Comparators. When SENSE1,2- for the buck channels is greater than INTVCC, then SENSE1,2- pin supplies current to the current comparator.", 6 VFB3 (in) "Receives the remotely sensed feedback voltage for each controller from an external resistive divider across the output.", 7 ITH3 "Error Amplifier Outputs and Switching Regulator Compensation Points. Each associated channel’s current comparator trip point increases with this control voltage.", 11 RUN3 (in) "Digital Run Control Inputs for Each Controller.", 25 BG3 (out) "High Current Gate Drives for Bottom (Synchronous) N-Channel MOSFETs. Voltage swing at these pins is from ground to INTVCC.", 26 BOOST3 "Bootstrapped Supplies to the Top Side Floating Drivers. Capacitors are connected between the BOOST and SW pins and Schottky diodes are tied between the BOOST and INTVCC pins. Voltage swing at the BOOST pins is from INTVCC to (See Datasheet)", 27 TG3 (out) "High Current Gate Drives for Top N-Channel MOSFETs. These are the outputs of floating drivers with a voltage swing equal to INTVCC superimposed on the switch node voltage SW.", 28 SW3 "Switch Node Connections to Inductors"
part D pins: 1 FREQ (in) "The Frequency Control Pin for the Internal VCO. Connecting the pin to GND forces the VCO to a fixed low frequency of 350kHz. Connecting the pin to INTVCC forces the VCO to a fixed high frequency of 535kHz. Other frequencies (See Datasheet)", 2 PLLIN/MODE (in) "External Synchronization Input to Phase Detector and Forced Continuous Mode Input.", 8 SGND (power) "Small Signal Ground common to all three controllers, must be routed separately from high current grounds to the common (-) terminals of the CIN capacitors.", 17 OV3 (hiz) "Overvoltage Open-Drain Logic Output for the Boost Regulator. OV3 is pulled to ground when the voltage on the VFB3 pin is under 110% of its set point, and becomes high impedance when VFB3 goes over 110% of its set point.", 22 INTVCC (power) "Output of the Internal Linear Low Dropout Regulator. The driver and control circuits are powered from this voltage source. Must be decoupled to PGND with a minimum of 4.7uF ceramic or tantalum capacitor", 23 EXTVCC (power) "External Power Input to an Internal LDO Connected to INTVCC. This LDO supplies INTVCC power, bypassing the internal LDO powered from VBIAS whenever EXTVCC is higher than 4.7V. See EXTVCC Connection in the Applications (See Datasheet)", 24 VBIAS (power) "Main Bias Input Supply Pin. A bypass capacitor should be tied between this pin and the SGND pin", 33 PGOOD1 (oc) "Open-Drain Logic Output. PGOOD1 is pulled to ground when the voltage on the VFB1 pin is not within +/-10% of its set point.", 39 EP (power) "Driver Power Ground. Connects to the sources of bottom N-channel MOSFETs and the (-) terminal(s) of CIN. The exposed pad must be soldered to the PCB for rated electrical and thermal performance."

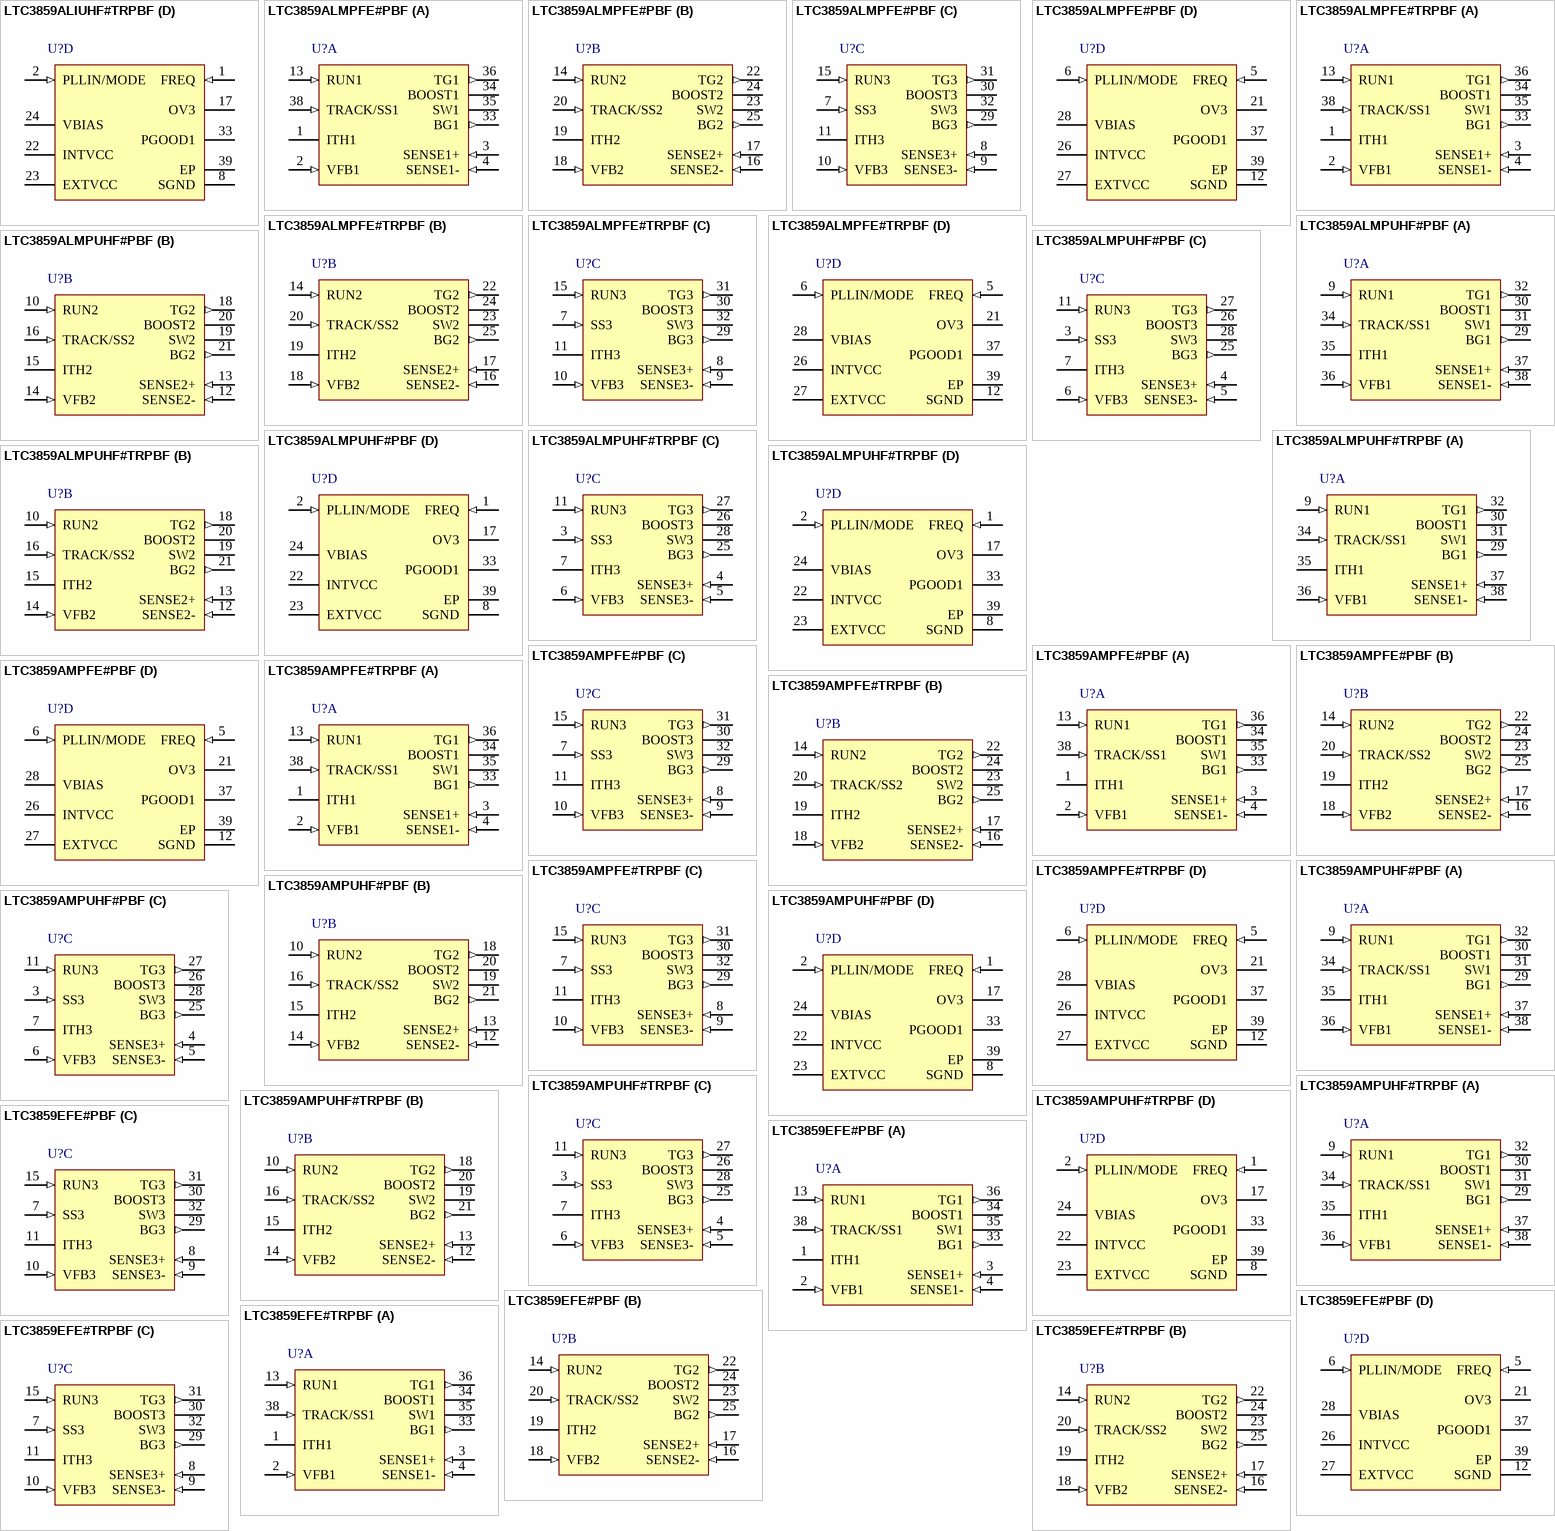
[diagram p100: symbols LTC3859ALIUHF#TRPBF to LTC3859EFE#TRPBF]